# EAGLE library part DUAL-NMOS (library TRANS, Dual NMOS)
Recommend TI CSD88537ND
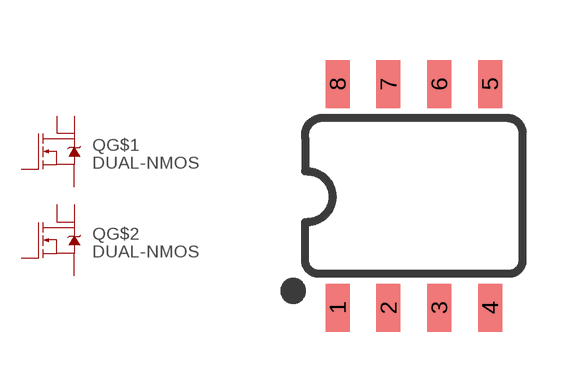
[diagram p0: symbol with the pads of SO08; footprint SO08]

Designator prefix Q; gates G$1=LABELED-NMOS G$2=LABELED-NMOS

## DUAL-NMOS  [SO08]
1  G$1:S
2  G$1:G
3  G$2:S
4  G$2:G
5  G$2:D1
6  G$2:D2
7  G$1:D1
8  G$1:D2

## Footprint SO08 (pad centres in mm)
SOIC, 0.15 inch width
smd 0.6 x 1.2: 1 -1.905,-2.8; 2 -0.635,-2.8; 3 0.635,-2.8; 4 1.905,-2.8; 5 1.905,2.8; 6 0.635,2.8; 7 -0.635,2.8; 8 -1.905,2.8